# EAGLE library part ADS1118 (library CougsInSpace)
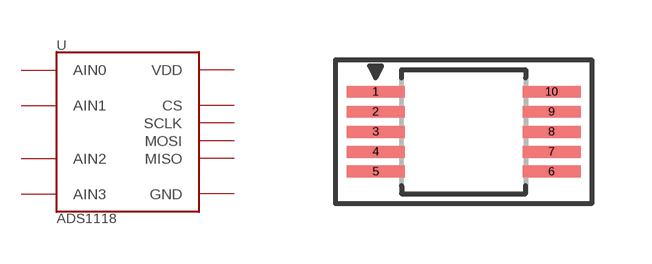
[diagram p25: symbol with the pads of VSSOP10; footprint VSSOP10]

Designator prefix U

## ADS1118VSSOP10  [VSSOP10]
1  SCLK  in
2  CS  in
3  GND  pwr
4  AIN0  in
5  AIN1  in
6  AIN2  in
7  AIN3  in
8  VDD  pwr
9  MISO  out
10  MOSI  in

## Footprint VSSOP10 (pad centres in mm)
smd 1.45 x 0.3: 1 -2.2,1; 2 -2.2,0.5; 3 -2.2,0; 4 -2.2,-0.5; 5 -2.2,-1; 6 2.2,-1; 7 2.2,-0.5; 8 2.2,0; 9 2.2,0.5; 10 2.2,1